# Altium footprint library MyLib.PcbLib: 96 footprints (part 6 of 6)
Each footprint in its own frame and in the unit in brackets; x right, y up, seen from the top. Pads: shape width x height; smd on the part's side, far side on the other; paste and mask are expansions set on the pad; w line width, h text height; cw(c..) or ccw(c..) is an arc to the next point about the centre after c.
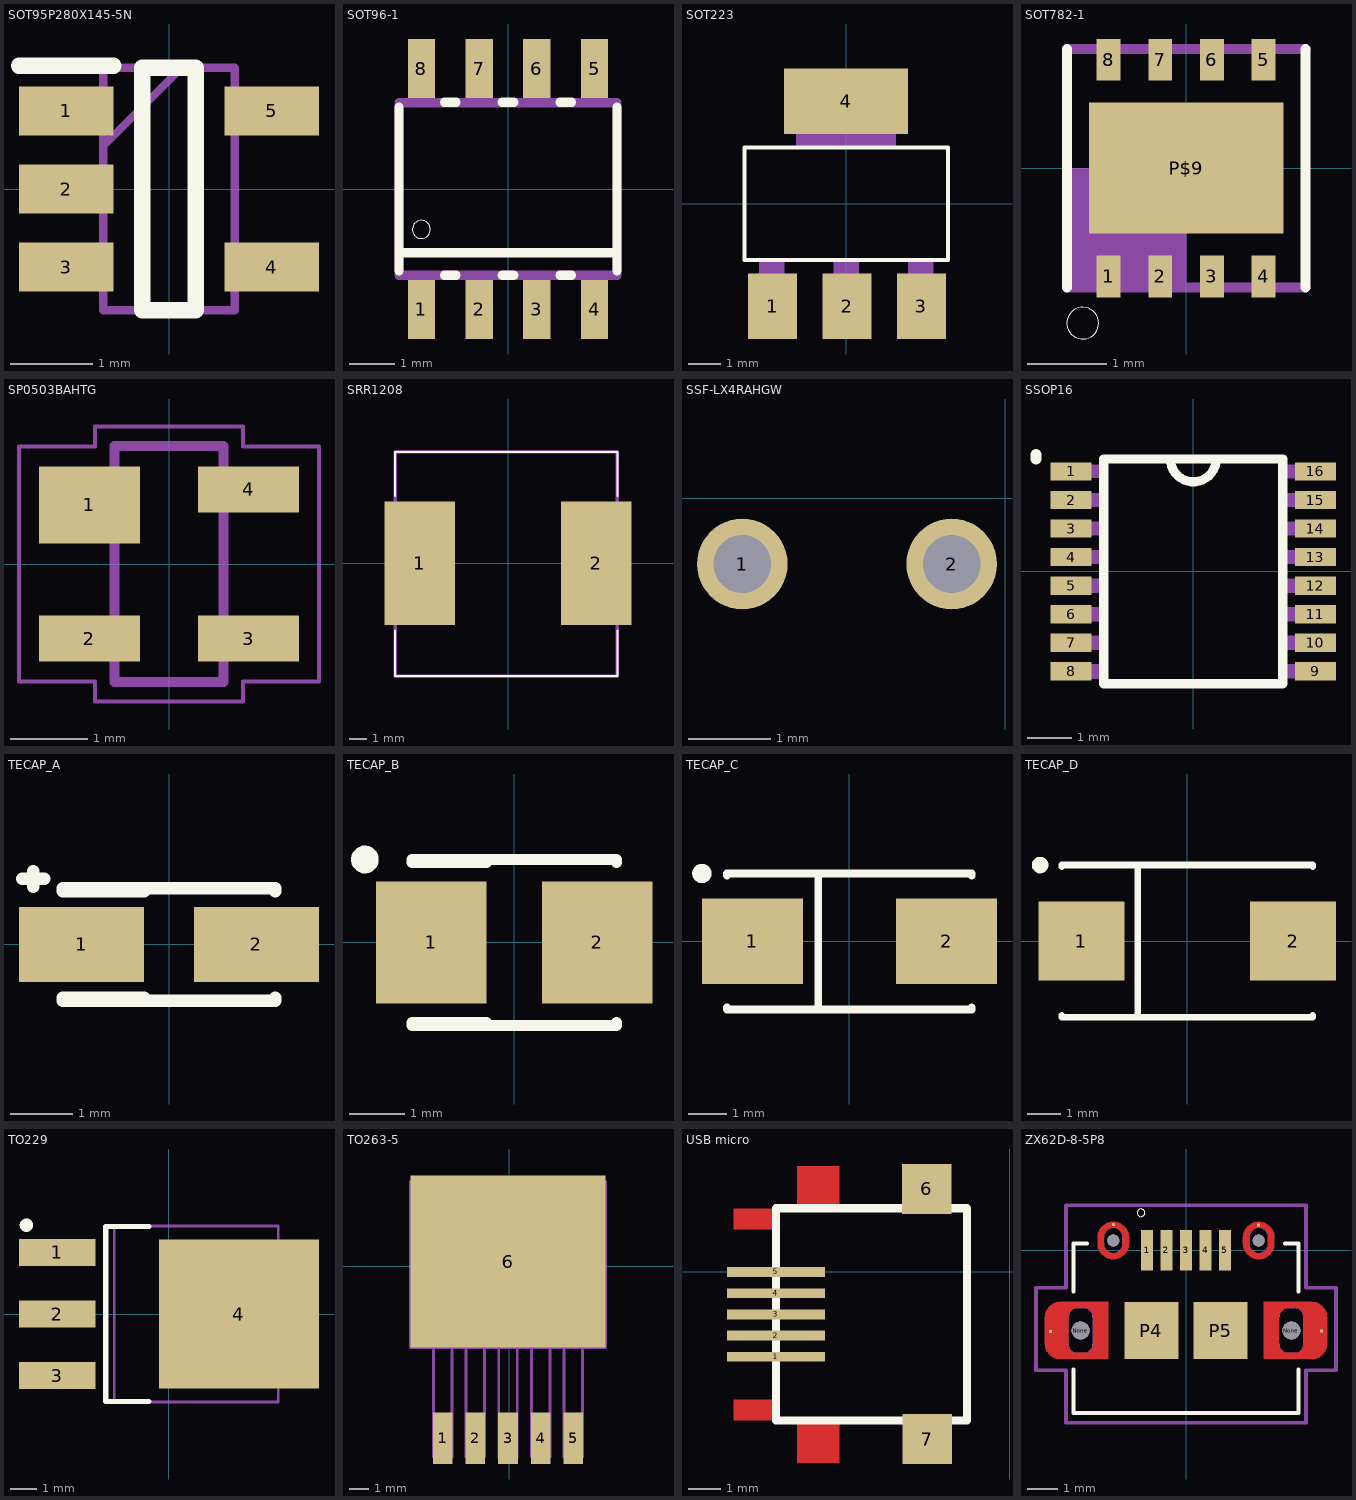
[diagram p5: the footprints below, top view; thin cyan lines are the x and y axes]

## SOT95P280X145-5N [mm]
pads (5):
  rect 1.15x0.6 smd: 1(-1.25,0.95) 2(-1.25,0) 3(-1.25,-0.95) 4(1.25,-0.95) 5(1.25,0.95)
Top Overlay:
  lines w0.2: -1.825,1.5 -0.675,1.5 ; -0.325,-1.475 0.325,-1.475 0.325,1.475 -0.325,1.475 -0.325,-1.475
Mechanical 15:
  lines w0.1: -0.8,0.525 0.15,1.475 ; -0.8,-1.475 0.8,-1.475 0.8,1.475 -0.8,1.475 -0.8,-1.475

## SOT96-1 [mm]
pads (8):
  rect 0.6x1.3 smd: 1(-1.905,-2.65) 2(-0.635,-2.65) 3(0.635,-2.65) 4(1.905,-2.65) 5(1.905,2.65) 6(0.635,2.65) 7(-0.635,2.65) 8(-1.905,2.65)
Top Overlay:
  circle w0: c-1.905,-0.889 r0.2
  lines w0.203: -2.4,-1.8 -2.4,-1.4 ; -2.4,1.8 -2.4,-1.4 ; -1.397,-1.9 -1.143,-1.9 ; -1.397,1.91 -1.143,1.91 ; -0.127,-1.9 0.127,-1.9 ; -0.127,1.91 0.127,1.91 ; 1.143,-1.9 1.397,-1.9 ; 1.143,1.91 1.397,1.91 ; 2.4,-1.8 2.4,-1.4 ; 2.4,1.8 2.4,-1.4 ; -2.4,-1.4 2.4,-1.4
Mechanical 1:
  region: -2.153,3.1 -1.66,3.1 -1.66,2.003 -2.153,2.003
  region: -0.882,3.1 -0.39,3.1 -0.39,2.004 -0.882,2.004
  region: 0.39,3.1 0.88,3.1 0.88,2 0.39,2
  region: 1.66,3.1 2.15,3.1 2.15,2 1.66,2
  region: 1.661,-2 2.15,-2 2.15,-3.103 1.661,-3.103
  region: 0.39,-2 0.88,-2 0.88,-3.101 0.39,-3.101
  region: -0.88,-2 -0.39,-2 -0.39,-3.101 -0.88,-3.101
  region: -2.153,-2 -1.66,-2 -1.66,-3.104 -2.153,-3.104
  lines w0.203: -2.4,-1.9 -2.4,-1.4 -2.4,1.9 2.4,1.9 2.4,-1.4 2.4,-1.9 -2.4,-1.9

## SOT223 [mil]
pads (4):
  rect 59x79 smd: 1(-89,-124) 2(1,-124) 3(91,-124)
  rect 150x79 smd: 4(0,124)
Top Overlay:
  lines w5: -123,-68 123,-68 123,68 -123,68 -123,-68
Mechanical 15:
  region: -15.02,-70 15,-70 15,-130.19 -15.02,-130.19
  region: 75.07,-70 105,-70 105,-130.12 75.07,-130.12
  region: -105.14,-70 -75,-70 -75,-130.17 -105.14,-130.17
  region: -60.12,130 60,130 60,70.14 -60.12,70.14
3D body "User Library-sot-223.step": height 64.47, standoff -1.48, extent -127.95,-136.46 127.96,136.46

## SOT782-1 [mm]
pads (9):
  rect 0.3x0.525 smd: 1(-0.975,-1.362) 2(-0.325,-1.362) 3(0.325,-1.362) 4(0.975,-1.362) 5(0.975,1.362) 6(0.325,1.362) 7(-0.325,1.362) 8(-0.975,1.362)
  rect 2.45x1.65 smd: P$9(0,0)
Top Overlay:
  circle w0: c-1.3,-1.95 r0.2
  lines w0.127: -1.5,-1.5 -1.5,1.5 ; 1.5,-1.5 1.5,1.5
Top Paste:
  region: -0.55,0.325 0.55,0.325 0.55,-0.325 -0.55,-0.325
Mechanical 1:
  region: -1.503,0 0,0 0,-1.503 -1.503,-1.503
  lines w0.127: -1.5,-1.5 1.5,-1.5 ; -1.5,1.5 1.5,1.5

## SP0503BAHTG [mm]
pads (4):
  rect 1.3x0.99 smd: 1(-1.025,0.76)
  rect 1.3x0.59 smd: 2(-1.025,-0.96) 3(1.025,-0.96) 4(1.025,0.96)
Mechanical 1:
  lines w0.127: -0.7,-1.52 -0.7,1.52 0.7,1.52 0.7,-1.52 -0.7,-1.52
Mechanical 15:
  lines w0.05: -1.93,-1.51 -1.93,1.51 -0.95,1.51 -0.95,1.77 0.95,1.77 0.95,1.51 1.93,1.51 1.93,-1.51 0.95,-1.51 0.95,-1.77 -0.95,-1.77 -0.95,-1.51 -1.93,-1.51
3D body "User Library-SOT143-1.step": height 1.22, standoff 0, extent -1.181,-1.45 1.182,1.45

## SRR1208 [mm]
pads (2):
  rect 4x7 smd: 1(-5,0) 2(5,0)
Top Overlay:
  lines w0.1: -6.4,-3.8 -6.4,-6.4 6.2,-6.4 6.2,-3.8 ; -6.4,3.8 -6.4,6.3 6.2,6.3 6.2,3.8
Mechanical 15:
  lines w0.2: -6.4,-6.4 -6.4,6.3 6.2,6.3 6.2,-6.4 -6.4,-6.4
3D body "SRR1208.stp": height 8.5, standoff 0, extent -6.55,-6.45 6.35,6.45

## SSF-LX4RAHGW [mm] "LED 3mm"
pads (2):
  round 1.1 hole 0.7: 1(-3.19,-0.8) 2(-0.65,-0.8)
3D body "User Library-SSF-LXH4RAHGW.STEP": height 7.88, standoff -2.94, extent -4.165,-13.262 0.335,-0.392

## SSOP16 [mil]
pads (16):
  rect 36x16 smd: 1(-107,87.5) 2(-107,62.5) 3(-107,37.5) 4(-107,12.5) 5(-107,-12.5) 6(-107,-37.5) 7(-107,-62.5) 8(-107,-87.5) 9(107,-87.5) 10(107,-62.5) 11(107,-37.5) 12(107,-12.5) 13(107,12.5) 14(107,37.5) 15(107,62.5) 16(107,87.5)
Top Overlay:
  lines w8: -20,98.4 ccw(c0,98.4) 20,98.4 ; -78.4,-98.4 -78.4,98.4 78.4,98.4 78.4,-98.4 -78.4,-98.4
  lines w10: -137.8,98.43 -137.8,102.36
Mechanical 1:
  region: 78.77,93.5 122,93.5 122,81.78 78.77,81.78
  region: 78.72,68.5 122,68.5 122,56.66 78.72,56.66
  region: 78.78,43.5 122,43.5 122,31.61 78.78,31.61
  region: 78.78,18.5 122,18.5 122,6.52 78.78,6.52
  region: 78.89,-6.5 122,-6.5 122,-18.59 78.89,-18.59
  region: 78.83,-31.5 122,-31.5 122,-43.68 78.83,-43.68
  region: 78.84,-56.5 122,-56.5 122,-68.8 78.84,-68.8
  region: 78.79,-81.5 122,-81.5 122,-93.85 78.79,-93.85
  region: -122.49,-81.5 -78.5,-81.5 -78.5,-93.88 -122.49,-93.88
  region: -122.24,-56.5 -78.5,-56.5 -78.5,-68.63 -122.24,-68.63
  region: -122.54,-31.5 -78.5,-31.5 -78.5,-43.69 -122.54,-43.69
  region: -122.26,-6.5 -78.5,-6.5 -78.5,-18.54 -122.26,-18.54
  region: -122.23,18.5 -78.5,18.5 -78.5,6.51 -122.23,6.51
  region: -122.46,43.5 -78.5,43.5 -78.5,31.62 -122.46,31.62
  region: -122.19,68.5 -78.5,68.5 -78.5,56.59 -122.19,56.59
  region: -122.45,93.5 -78.5,93.5 -78.5,81.8 -122.45,81.8
3D body "User Library-SSOP 16-pin.STEP": height 68.9, standoff 0.29, extent -123.08,-98.42 123.1,98.43

## TECAP_A [mm]
pads (2):
  rect 2x1.2 smd: 1(-1.4,0) 2(1.4,0)
Top Overlay:
  lines w0.2: -2.35,1.05 -2,1.05 ; -2.175,0.925 -2.175,1.175 ; -1.7,-0.9 1.7,-0.9 1.7,-0.85 ; -1.7,-0.85 -0.4,-0.85 ; -1.7,0.85 -0.4,0.85 ; -1.7,0.9 1.7,0.9 1.7,0.85
3D body "User Library-CAP_TANT_3216-18_A_case-1.step": height 1.7, standoff 0, extent -1.7,-0.9 1.7,0.9

## TECAP_B [mm]
pads (2):
  rect 2x2.2 smd: 1(-1.5,0) 2(1.5,0)
Top Overlay:
  circle w0.25: c-2.7,1.5 r0.125
  lines w0.2: -1.85,-1.5 1.85,-1.5 1.85,-1.45 ; -1.85,-1.45 -0.5,-1.45 ; -1.85,1.45 -0.5,1.45 ; -1.85,1.5 1.85,1.5 1.85,1.45
3D body "User Library-Tantalum Capacitor Case B.STEP": height 2.09, standoff -0.01, extent -1.811,-1.45 1.879,1.37

## TECAP_C [mm]
pads (2):
  rect 2.6x2.2 smd: 1(-2.5,0) 2(2.5,0)
Top Overlay:
  circle w0.25: c-3.8,1.75 r0.125
  lines w0.2: -3.15,-1.7 -3.15,-1.75 3.15,-1.75 3.15,-1.7 ; -3.15,1.7 -3.15,1.75 3.15,1.75 3.15,1.7 ; -0.8,-1.75 -0.8,1.75
3D body "User Library-Tantalum Capacitor Case C.STEP": height 2.72, standoff 0.03, extent -3.068,-1.6 3.118,1.605

## TECAP_D [mm]
pads (2):
  rect 2.6x2.4 smd: 1(-3.2,0) 2(3.2,0)
Top Overlay:
  circle w0.25: c-4.45,2.3 r0.125
  lines w0.2: -3.8,-2.25 -3.8,-2.3 3.8,-2.3 3.8,-2.25 ; -3.8,2.25 -3.8,2.3 3.8,2.3 3.8,2.25 ; -1.5,-2.3 -1.5,2.3
3D body "CAPM-TANTD-YL.stp": height 3.1, standoff 0, extent -3.75,-2.25 3.75,2.25

## TO229 [mm]
pads (4):
  rect 2.85x1 smd: 1(-4.15,2.29) 2(-4.15,0) 3(-4.15,-2.29)
  rect 5.95x5.55 smd: 4(2.6,0)
Top Overlay:
  circle w0.25: c-5.3,3.3 r0.125
  lines w0.2: -0.75,-3.25 -2.35,-3.25 -2.35,3.25 -0.75,3.25
Top Paste:
  region: 0.33,-2.07 2.25,-2.07 2.25,-0.35 0.33,-0.35
  region: 2.95,-2.07 4.87,-2.07 4.87,-0.35 2.95,-0.35
  region: 0.33,0.35 2.25,0.35 2.25,2.07 0.33,2.07
  region: 2.95,0.35 4.87,0.35 4.87,2.07 2.95,2.07
Mechanical 15:
  lines w0.1: 4.062,-2.508 4.356,-2.508 4.952,-1.846 4.952,1.847 4.356,2.508 4.062,2.508 ; -2.032,-3.27 4.062,-3.27 4.062,3.27 -2.032,3.27 -2.032,-3.27

## TO263-5 [mil]
pads (6):
  rect 40x106 smd: 1(-137.03,-352.81) 2(-70.03,-352.81) 3(-3.03,-352.81) 4(63.97,-352.81) 5(130.97,-352.81)
  rect 400x352 smd: 6(-3.03,9.19)
Mechanical 1:
  lines w6: -203.03,-166.81 196.97,-166.81 196.97,173.19 -203.03,173.19 -203.03,-166.81 ; -156.03,-391.81 -156.03,-166.81 -118.03,-166.81 -118.03,-391.81 -156.03,-391.81 ; -89.03,-391.81 -89.03,-166.81 -51.03,-166.81 -51.03,-391.81 -89.03,-391.81 ; -22.03,-391.81 -22.03,-166.81 15.97,-166.81 15.97,-391.81 -22.03,-391.81 ; 44.97,-391.81 44.97,-166.81 82.97,-166.81 82.97,-391.81 44.97,-391.81 ; 111.97,-391.81 111.97,-166.81 149.97,-166.81 149.97,-391.81 111.97,-391.81
3D body "TO263-5-1.stp": height 165.95, standoff 0, extent -197.27,-396.09 189.41,178.79

## USB micro [mm]
pads (7):
  rect 3x0.3 smd: 1(-7.155,-2.605) 2(-7.155,-1.955) 3(-7.155,-1.305) 4(-7.155,-0.655) 5(-7.155,-0.005)
  rect 1.524x1.524 smd: 6(-2.54,2.54) 7(-2.525,-5.125)
Top Layer:
  rectangle: -8.455,1.295 -7.155,1.945
  rectangle: -8.455,-4.555 -7.155,-3.905
  rectangle: -3.255,-5.855 -1.955,-4.555
  rectangle: -3.255,1.945 -1.955,3.245
  rectangle: -6.505,1.945 -5.205,3.245
  rectangle: -6.505,-5.855 -5.205,-4.555
Top Overlay:
  lines w0.254: -7.155,-4.555 -1.305,-4.555 -1.305,1.945 -7.155,1.945 -7.155,-4.555

## ZX62D-8-5P8 [mm]
pads (15):
  rect 0.4x1.35 smd: 1(-1.3,0) 2(-0.65,0) 3(0,0) 4(0.65,0) 5(1.3,0)
  round 0.6 hole 0.6 unplated: None(-3.512,-2.675) None(3.512,-2.675)
  round 0.4 hole 0.4 unplated: None(-2.425,0.325) None(2.425,0.325)
  rect 0.1x0.1 smd: P1(-2.425,0.85) P2(2.425,0.837) P3(-4.513,-2.712) P6(4.513,-2.688)
  rect 1.8x1.9 smd: P4(-1.15,-2.675) P5(1.15,-2.675)
Top Layer:
  region: -2.425,0.75 -2.425,0.95 -2.411,0.95 -2.384,0.949 -2.356,0.946 -2.329,0.941 -2.302,0.936 -2.276,0.929 -2.25,0.92 -2.224,0.91 -2.199,0.899 -2.174,0.887 -2.151,0.873 -2.128,0.858 -2.105,0.842 -2.084,0.824 -2.063,0.806 -2.044,0.787 -2.026,0.766 -2.008,0.745 -1.992,0.722 -1.977,0.699 -1.963,0.676 -1.951,0.651 -1.94,0.626 -1.93,0.6 -1.921,0.574 -1.914,0.548 -1.909,0.521 -1.904,0.494 -1.901,0.466 -1.9,0.439 -1.9,0.425 -1.9,0.225 -1.9,0.211 -1.901,0.184 -1.904,0.156 -1.909,0.129 -1.914,0.102 -1.921,0.076 -1.93,0.05 -1.94,0.024 -1.951,-0.001 -1.963,-0.026 -1.977,-0.049 -1.992,-0.072 -2.008,-0.095 -2.026,-0.116 -2.044,-0.137 -2.063,-0.156 -2.084,-0.174 -2.105,-0.192 -2.128,-0.208 -2.151,-0.223 -2.174,-0.237 -2.199,-0.249 -2.224,-0.26 -2.25,-0.27 -2.276,-0.279 -2.302,-0.286 -2.329,-0.291 -2.356,-0.296 -2.384,-0.299 -2.411,-0.3 -2.425,-0.3 -2.425,-0.1 -2.416,-0.1 -2.399,-0.099 -2.383,-0.097 -2.366,-0.095 -2.349,-0.091 -2.333,-0.087 -2.316,-0.081 -2.301,-0.075 -2.285,-0.068 -2.27,-0.061 -2.255,-0.052 -2.241,-0.043 -2.227,-0.033 -2.214,-0.022 -2.201,-0.011 -2.189,0.001 -2.178,0.014 -2.167,0.027 -2.157,0.041 -2.148,0.055 -2.139,0.07 -2.132,0.085 -2.125,0.101 -2.119,0.116 -2.113,0.133 -2.109,0.149 -2.105,0.166 -2.103,0.183 -2.101,0.199 -2.1,0.216 -2.1,0.225 -2.1,0.425 -2.1,0.434 -2.101,0.451 -2.103,0.467 -2.105,0.484 -2.109,0.501 -2.113,0.517 -2.119,0.534 -2.125,0.549 -2.132,0.565 -2.139,0.58 -2.148,0.595 -2.157,0.609 -2.167,0.623 -2.178,0.636 -2.189,0.649 -2.201,0.661 -2.214,0.672 -2.227,0.683 -2.241,0.693 -2.255,0.702 -2.27,0.711 -2.285,0.718 -2.301,0.725 -2.316,0.731 -2.333,0.737 -2.349,0.741 -2.366,0.745 -2.383,0.747 -2.399,0.749 -2.416,0.75
  region: -2.425,-0.1 -2.425,-0.3 -2.439,-0.3 -2.466,-0.299 -2.494,-0.296 -2.521,-0.291 -2.548,-0.286 -2.574,-0.279 -2.6,-0.27 -2.626,-0.26 -2.651,-0.249 -2.676,-0.237 -2.699,-0.223 -2.722,-0.208 -2.745,-0.192 -2.766,-0.174 -2.787,-0.156 -2.806,-0.137 -2.824,-0.116 -2.842,-0.095 -2.858,-0.072 -2.873,-0.049 -2.887,-0.026 -2.899,-0.001 -2.91,0.024 -2.92,0.05 -2.929,0.076 -2.936,0.102 -2.941,0.129 -2.946,0.156 -2.949,0.184 -2.95,0.211 -2.95,0.225 -2.95,0.425 -2.95,0.439 -2.949,0.466 -2.946,0.494 -2.941,0.521 -2.936,0.548 -2.929,0.574 -2.92,0.6 -2.91,0.626 -2.899,0.651 -2.887,0.676 -2.873,0.699 -2.858,0.722 -2.842,0.745 -2.824,0.766 -2.806,0.787 -2.787,0.806 -2.766,0.824 -2.745,0.842 -2.722,0.858 -2.699,0.873 -2.676,0.887 -2.651,0.899 -2.626,0.91 -2.6,0.92 -2.574,0.929 -2.548,0.936 -2.521,0.941 -2.494,0.946 -2.466,0.949 -2.439,0.95 -2.425,0.95 -2.425,0.75 -2.434,0.75 -2.451,0.749 -2.467,0.747 -2.484,0.745 -2.501,0.741 -2.517,0.737 -2.534,0.731 -2.549,0.725 -2.565,0.718 -2.58,0.711 -2.595,0.702 -2.609,0.693 -2.623,0.683 -2.636,0.672 -2.649,0.661 -2.661,0.649 -2.672,0.636 -2.683,0.623 -2.693,0.609 -2.702,0.595 -2.711,0.58 -2.718,0.565 -2.725,0.549 -2.731,0.534 -2.737,0.517 -2.741,0.501 -2.745,0.484 -2.747,0.467 -2.749,0.451 -2.75,0.434 -2.75,0.425 -2.75,0.225 -2.75,0.216 -2.749,0.199 -2.747,0.183 -2.745,0.166 -2.741,0.149 -2.737,0.133 -2.731,0.116 -2.725,0.101 -2.718,0.085 -2.711,0.07 -2.702,0.055 -2.693,0.041 -2.683,0.027 -2.672,0.014 -2.661,0.001 -2.649,-0.011 -2.636,-0.022 -2.623,-0.033 -2.609,-0.043 -2.595,-0.052 -2.58,-0.061 -2.565,-0.068 -2.549,-0.075 -2.534,-0.081 -2.517,-0.087 -2.501,-0.091 -2.484,-0.095 -2.467,-0.097 -2.451,-0.099 -2.434,-0.1
  region: 2.425,0.75 2.425,0.95 2.439,0.95 2.466,0.949 2.494,0.946 2.521,0.941 2.548,0.936 2.574,0.929 2.6,0.92 2.626,0.91 2.651,0.899 2.676,0.887 2.699,0.873 2.722,0.858 2.745,0.842 2.766,0.824 2.787,0.806 2.806,0.787 2.824,0.766 2.842,0.745 2.858,0.722 2.873,0.699 2.887,0.676 2.899,0.651 2.91,0.626 2.92,0.6 2.929,0.574 2.936,0.548 2.941,0.521 2.946,0.494 2.949,0.466 2.95,0.439 2.95,0.425 2.95,0.225 2.95,0.211 2.949,0.184 2.946,0.156 2.941,0.129 2.936,0.102 2.929,0.076 2.92,0.05 2.91,0.024 2.899,-0.001 2.887,-0.026 2.873,-0.049 2.858,-0.072 2.842,-0.095 2.824,-0.116 2.806,-0.137 2.787,-0.156 2.766,-0.174 2.745,-0.192 2.722,-0.208 2.699,-0.223 2.676,-0.237 2.651,-0.249 2.626,-0.26 2.6,-0.27 2.574,-0.279 2.548,-0.286 2.521,-0.291 2.494,-0.296 2.466,-0.299 2.439,-0.3 2.425,-0.3 2.425,-0.1 2.434,-0.1 2.451,-0.099 2.467,-0.097 2.484,-0.095 2.501,-0.091 2.517,-0.087 2.534,-0.081 2.549,-0.075 2.565,-0.068 2.58,-0.061 2.595,-0.052 2.609,-0.043 2.623,-0.033 2.636,-0.022 2.649,-0.011 2.661,0.001 2.672,0.014 2.683,0.027 2.693,0.041 2.702,0.055 2.711,0.07 2.718,0.085 2.725,0.101 2.731,0.116 2.737,0.133 2.741,0.149 2.745,0.166 2.747,0.183 2.749,0.199 2.75,0.216 2.75,0.225 2.75,0.425 2.75,0.434 2.749,0.451 2.747,0.467 2.745,0.484 2.741,0.501 2.737,0.517 2.731,0.534 2.725,0.549 2.718,0.565 2.711,0.58 2.702,0.595 2.693,0.609 2.683,0.623 2.672,0.636 2.661,0.649 2.649,0.661 2.636,0.672 2.623,0.683 2.609,0.693 2.595,0.702 2.58,0.711 2.565,0.718 2.549,0.725 2.534,0.731 2.517,0.737 2.501,0.741 2.484,0.745 2.467,0.747 2.451,0.749 2.434,0.75
  region: 2.425,-0.1 2.425,-0.3 2.411,-0.3 2.384,-0.299 2.356,-0.296 2.329,-0.291 2.302,-0.286 2.276,-0.279 2.25,-0.27 2.224,-0.26 2.199,-0.249 2.174,-0.237 2.151,-0.223 2.128,-0.208 2.105,-0.192 2.084,-0.174 2.063,-0.156 2.044,-0.137 2.026,-0.116 2.008,-0.095 1.992,-0.072 1.977,-0.049 1.963,-0.026 1.951,-0.001 1.94,0.024 1.93,0.05 1.921,0.076 1.914,0.102 1.909,0.129 1.904,0.156 1.901,0.184 1.9,0.211 1.9,0.225 1.9,0.425 1.9,0.439 1.901,0.466 1.904,0.494 1.909,0.521 1.914,0.548 1.921,0.574 1.93,0.6 1.94,0.626 1.951,0.651 1.963,0.676 1.977,0.699 1.992,0.722 2.008,0.745 2.026,0.766 2.044,0.787 2.063,0.806 2.084,0.824 2.105,0.842 2.128,0.858 2.151,0.873 2.174,0.887 2.199,0.899 2.224,0.91 2.25,0.92 2.276,0.929 2.302,0.936 2.329,0.941 2.356,0.946 2.384,0.949 2.411,0.95 2.425,0.95 2.425,0.75 2.416,0.75 2.399,0.749 2.383,0.747 2.366,0.745 2.349,0.741 2.333,0.737 2.316,0.731 2.301,0.725 2.285,0.718 2.27,0.711 2.255,0.702 2.241,0.693 2.227,0.683 2.214,0.672 2.201,0.661 2.189,0.649 2.178,0.636 2.167,0.623 2.157,0.609 2.148,0.595 2.139,0.58 2.132,0.565 2.125,0.549 2.119,0.534 2.113,0.517 2.109,0.501 2.105,0.484 2.103,0.467 2.101,0.451 2.1,0.434 2.1,0.425 2.1,0.225 2.1,0.216 2.101,0.199 2.103,0.183 2.105,0.166 2.109,0.149 2.113,0.133 2.119,0.116 2.125,0.101 2.132,0.085 2.139,0.07 2.148,0.055 2.157,0.041 2.167,0.027 2.178,0.014 2.189,0.001 2.201,-0.011 2.214,-0.022 2.227,-0.033 2.241,-0.043 2.255,-0.052 2.27,-0.061 2.285,-0.068 2.301,-0.075 2.316,-0.081 2.333,-0.087 2.349,-0.091 2.366,-0.095 2.383,-0.097 2.399,-0.099 2.416,-0.1
  region: -2.6,-1.725 -4.2,-1.725 -4.213,-1.725 -4.239,-1.726 -4.265,-1.729 -4.291,-1.733 -4.317,-1.739 -4.342,-1.745 -4.367,-1.754 -4.391,-1.763 -4.415,-1.774 -4.439,-1.785 -4.461,-1.799 -4.483,-1.813 -4.504,-1.828 -4.525,-1.845 -4.544,-1.862 -4.563,-1.881 -4.58,-1.9 -4.597,-1.921 -4.612,-1.942 -4.626,-1.964 -4.64,-1.986 -4.651,-2.01 -4.662,-2.034 -4.671,-2.058 -4.68,-2.083 -4.686,-2.108 -4.692,-2.134 -4.696,-2.16 -4.699,-2.186 -4.7,-2.212 -4.7,-2.225 -4.7,-2.675 -3.925,-2.675 -3.925,-2.225 -3.925,-2.217 -3.924,-2.201 -3.923,-2.186 -3.92,-2.17 -3.917,-2.155 -3.913,-2.14 -3.908,-2.125 -3.902,-2.11 -3.896,-2.096 -3.889,-2.082 -3.881,-2.068 -3.872,-2.055 -3.863,-2.042 -3.853,-2.03 -3.843,-2.018 -3.832,-2.007 -3.82,-1.997 -3.808,-1.987 -3.795,-1.978 -3.782,-1.969 -3.768,-1.961 -3.754,-1.954 -3.74,-1.948 -3.725,-1.942 -3.71,-1.937 -3.695,-1.933 -3.68,-1.93 -3.664,-1.927 -3.649,-1.926 -3.633,-1.925 -3.625,-1.925 -3.4,-1.925 -3.392,-1.925 -3.376,-1.926 -3.361,-1.927 -3.345,-1.93 -3.33,-1.933 -3.315,-1.937 -3.3,-1.942 -3.285,-1.948 -3.271,-1.954 -3.257,-1.961 -3.243,-1.969 -3.23,-1.978 -3.217,-1.987 -3.205,-1.997 -3.193,-2.007 -3.182,-2.018 -3.172,-2.03 -3.162,-2.042 -3.153,-2.055 -3.144,-2.068 -3.136,-2.082 -3.129,-2.096 -3.123,-2.11 -3.117,-2.125 -3.112,-2.14 -3.108,-2.155 -3.105,-2.17 -3.102,-2.186 -3.101,-2.201 -3.1,-2.217 -3.1,-2.225 -3.1,-2.675 -2.6,-2.675
  region: 2.6,-3.625 4.2,-3.625 4.213,-3.625 4.239,-3.624 4.265,-3.621 4.291,-3.617 4.317,-3.611 4.342,-3.605 4.367,-3.596 4.391,-3.587 4.415,-3.576 4.439,-3.565 4.461,-3.551 4.483,-3.537 4.504,-3.522 4.525,-3.505 4.544,-3.488 4.563,-3.469 4.58,-3.45 4.597,-3.429 4.612,-3.408 4.626,-3.386 4.64,-3.364 4.651,-3.34 4.662,-3.316 4.671,-3.292 4.68,-3.267 4.686,-3.242 4.692,-3.216 4.696,-3.19 4.699,-3.164 4.7,-3.138 4.7,-3.125 4.7,-2.675 3.925,-2.675 3.925,-3.125 3.925,-3.133 3.924,-3.149 3.923,-3.164 3.92,-3.18 3.917,-3.195 3.913,-3.21 3.908,-3.225 3.902,-3.24 3.896,-3.254 3.889,-3.268 3.881,-3.282 3.872,-3.295 3.863,-3.308 3.853,-3.32 3.843,-3.332 3.832,-3.343 3.82,-3.353 3.808,-3.363 3.795,-3.372 3.782,-3.381 3.768,-3.389 3.754,-3.396 3.74,-3.402 3.725,-3.408 3.71,-3.413 3.695,-3.417 3.68,-3.42 3.664,-3.423 3.649,-3.424 3.633,-3.425 3.625,-3.425 3.4,-3.425 3.392,-3.425 3.376,-3.424 3.361,-3.423 3.345,-3.42 3.33,-3.417 3.315,-3.413 3.3,-3.408 3.285,-3.402 3.271,-3.396 3.257,-3.389 3.243,-3.381 3.23,-3.372 3.217,-3.363 3.205,-3.353 3.193,-3.343 3.182,-3.332 3.172,-3.32 3.162,-3.308 3.153,-3.295 3.144,-3.282 3.136,-3.268 3.129,-3.254 3.123,-3.24 3.117,-3.225 3.112,-3.21 3.108,-3.195 3.105,-3.18 3.102,-3.164 3.101,-3.149 3.1,-3.133 3.1,-3.125 3.1,-2.675 2.6,-2.675
  region: -3.1,-2.675 -2.6,-2.675 -2.6,-3.625 -4.2,-3.625 -4.213,-3.625 -4.239,-3.624 -4.265,-3.621 -4.291,-3.617 -4.317,-3.611 -4.342,-3.605 -4.367,-3.596 -4.391,-3.587 -4.415,-3.576 -4.439,-3.565 -4.461,-3.551 -4.483,-3.537 -4.504,-3.522 -4.525,-3.505 -4.544,-3.488 -4.563,-3.469 -4.58,-3.45 -4.597,-3.429 -4.612,-3.408 -4.626,-3.386 -4.64,-3.364 -4.651,-3.34 -4.662,-3.316 -4.671,-3.292 -4.68,-3.267 -4.686,-3.242 -4.692,-3.216 -4.696,-3.19 -4.699,-3.164 -4.7,-3.138 -4.7,-3.125 -4.7,-2.675 -3.925,-2.675 -3.925,-3.15 -3.925,-3.157 -3.924,-3.172 -3.923,-3.186 -3.92,-3.2 -3.917,-3.214 -3.914,-3.228 -3.909,-3.242 -3.904,-3.255 -3.898,-3.268 -3.892,-3.281 -3.885,-3.294 -3.877,-3.306 -3.868,-3.317 -3.859,-3.329 -3.85,-3.339 -3.839,-3.35 -3.829,-3.359 -3.817,-3.368 -3.806,-3.377 -3.794,-3.385 -3.781,-3.392 -3.768,-3.398 -3.755,-3.404 -3.742,-3.409 -3.728,-3.414 -3.714,-3.417 -3.7,-3.42 -3.686,-3.423 -3.672,-3.424 -3.657,-3.425 -3.65,-3.425 -3.4,-3.425 -3.392,-3.425 -3.376,-3.424 -3.361,-3.423 -3.345,-3.42 -3.33,-3.417 -3.315,-3.413 -3.3,-3.408 -3.285,-3.402 -3.271,-3.396 -3.257,-3.389 -3.243,-3.381 -3.23,-3.372 -3.217,-3.363 -3.205,-3.353 -3.193,-3.343 -3.182,-3.332 -3.172,-3.32 -3.162,-3.308 -3.153,-3.295 -3.144,-3.282 -3.136,-3.268 -3.129,-3.254 -3.123,-3.24 -3.117,-3.225 -3.112,-3.21 -3.108,-3.195 -3.105,-3.18 -3.102,-3.164 -3.101,-3.149 -3.1,-3.133 -3.1,-3.125
  region: 3.1,-2.675 2.6,-2.675 2.6,-1.725 4.2,-1.725 4.213,-1.725 4.239,-1.726 4.265,-1.729 4.291,-1.733 4.317,-1.739 4.342,-1.745 4.367,-1.754 4.391,-1.763 4.415,-1.774 4.439,-1.785 4.461,-1.799 4.483,-1.813 4.504,-1.828 4.525,-1.845 4.544,-1.862 4.563,-1.881 4.58,-1.9 4.597,-1.921 4.612,-1.942 4.626,-1.964 4.64,-1.986 4.651,-2.01 4.662,-2.034 4.671,-2.058 4.68,-2.083 4.686,-2.108 4.692,-2.134 4.696,-2.16 4.699,-2.186 4.7,-2.212 4.7,-2.225 4.7,-2.675 3.925,-2.675 3.925,-2.2 3.925,-2.193 3.924,-2.178 3.923,-2.164 3.92,-2.15 3.917,-2.136 3.914,-2.122 3.909,-2.108 3.904,-2.095 3.898,-2.082 3.892,-2.069 3.885,-2.056 3.877,-2.044 3.868,-2.033 3.859,-2.021 3.85,-2.011 3.839,-2 3.829,-1.991 3.817,-1.982 3.806,-1.973 3.794,-1.965 3.781,-1.958 3.768,-1.952 3.755,-1.946 3.742,-1.941 3.728,-1.936 3.714,-1.933 3.7,-1.93 3.686,-1.927 3.672,-1.926 3.657,-1.925 3.65,-1.925 3.4,-1.925 3.392,-1.925 3.376,-1.926 3.361,-1.927 3.345,-1.93 3.33,-1.933 3.315,-1.937 3.3,-1.942 3.285,-1.948 3.271,-1.954 3.257,-1.961 3.243,-1.969 3.23,-1.978 3.217,-1.987 3.205,-1.997 3.193,-2.007 3.182,-2.018 3.172,-2.03 3.162,-2.042 3.153,-2.055 3.144,-2.068 3.136,-2.082 3.129,-2.096 3.123,-2.11 3.117,-2.125 3.112,-2.14 3.108,-2.155 3.105,-2.17 3.102,-2.186 3.101,-2.201 3.1,-2.217 3.1,-2.225
Top Overlay:
  circle w0: c-1.5,1.25 r0.127
  lines w0.127: -3.75,-3.975 -3.75,-5.425 3.75,-5.425 3.75,-3.975 ; -3.75,-1.375 -3.75,0.225 -3.3,0.225 ; 3.3,0.225 3.75,0.225 3.75,-1.375
Top Paste:
  drawing of 8 lines, arcs and shapes, not listed
Top Solder:
  region: -3.054,1.05 -1.8,1.05 -1.8,-0.401 -3.054,-0.401
  region: 1.803,1.05 3.05,1.05 3.05,-0.401 1.803,-0.401
  region: -4.801,-1.625 -2.5,-1.625 -2.5,-3.726 -4.801,-3.726
  region: 2.506,-1.625 4.8,-1.625 4.8,-3.734 2.506,-3.734
Mechanical 4:
  lines w0.01: -3.925,-3.125 ccw(c-3.625,-3.125) -3.625,-3.425 -3.4,-3.425 ccw(c-3.4,-3.125) -3.1,-3.125 -3.1,-2.225 ccw(c-3.4,-2.225) -3.4,-1.925 -3.625,-1.925 ccw(c-3.625,-2.225) -3.925,-2.225 -3.925,-3.125 ; -2.75,0.225 ccw(c-2.425,0.225) -2.425,-0.1 ccw(c-2.425,0.225) -2.1,0.225 -2.1,0.425 ccw(c-2.425,0.425) -2.425,0.75 ccw(c-2.425,0.425) -2.75,0.425 -2.75,0.225 ; 2.1,0.225 ccw(c2.425,0.225) 2.425,-0.1 ccw(c2.425,0.225) 2.75,0.225 2.75,0.425 ccw(c2.425,0.425) 2.425,0.75 ccw(c2.425,0.425) 2.1,0.425 2.1,0.225 ; 3.1,-3.125 ccw(c3.4,-3.125) 3.4,-3.425 3.625,-3.425 ccw(c3.625,-3.125) 3.925,-3.125 3.925,-2.225 ccw(c3.625,-2.225) 3.625,-1.925 3.4,-1.925 ccw(c3.4,-2.225) 3.1,-2.225 3.1,-3.125
Mechanical 15:
  lines w0.127: -5,-4 -5,-1.25 -4,-1.25 -4,1.5 4,1.5 4,-1.25 5,-1.25 5,-4 4,-4 4,-5.75 -4,-5.75 -4,-4 -5,-4